# EAGLE library part AE10383-ND_PART (library AustinCustomLib)
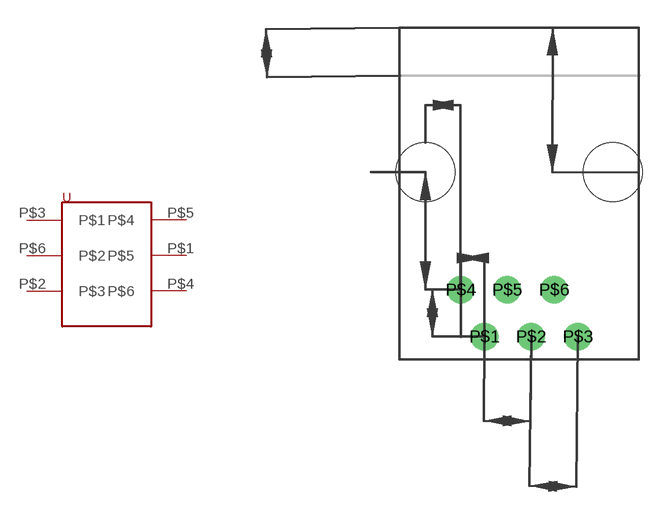
[diagram p0: symbol with the pads of AE10383-ND; footprint AE10383-ND]

Designator prefix -

## AE10383-ND_PART  [AE10383-ND]
P$1  P$5  in
P$2  P$3  in
P$3  P$1  in
P$4  P$6  in
P$5  P$4  in
P$6  P$2  in

## Footprint AE10383-ND (pad centres in mm)
6 Port weird connector thing
drill 0.9 pad 1.5: P$1 4.61,1.24; P$2 7.14,1.24; P$3 9.68,1.24; P$4 3.32,3.78; P$5 5.85,3.78; P$6 8.39,3.78
hole 3.2 at 1.41,10.17
hole 3.2 at 11.57,10.17